# Altium integrated library ST Video Sound Circuit.IntLib: 5 symbols
Pins are listed as number, name and electrical type; pins without a type are passive.

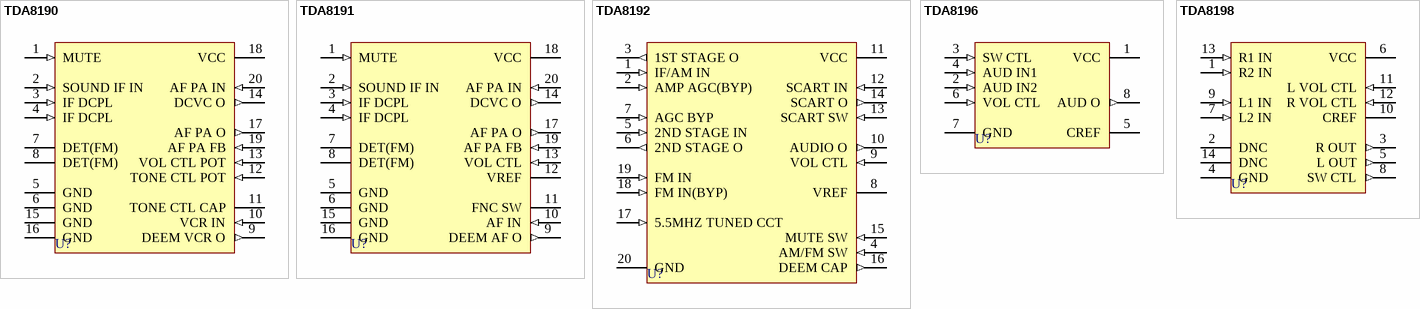
[diagram p0: symbols TDA8190 to TDA8198]

## TDA8190
designator U?
TV Sound Channel With DC Control; Published: 24-Aug-2001; LatestRevisionDate: 17-Jul-2002; LatestRevisionNote: Re-released for DXP Platform.; DatasheetDocument: Sep-1993; PackageDocument: Jun-1998; PackageReference: DIP20; Publisher: Altium Limited; Code_JEDEC: MS-015-AE
footprint DIP20 (DIP; 20 Leads; Row Spacing 7.62 mm; Pitch 2.54 mm)
pins: 1 MUTE (in), 2 SOUND IF IN (in), 3 IF DCPL (in), 4 IF DCPL (in), 5 GND (power), 6 GND (power), 7 DET(FM), 8 DET(FM), 9 DEEM VCR O (out), 10 VCR IN (in), 11 TONE CTL CAP, 12 TONE CTL POT (in), 13 VOL CTL POT (in), 14 DCVC O (out), 15 GND (power), 16 GND (power), 17 AF PA O (out), 18 VCC (power), 19 AF PA FB (in), 20 AF PA IN (in)

## TDA8191
designator U?
TV Sound Channel; Published: 24-Aug-2001; LatestRevisionDate: 17-Jul-2002; LatestRevisionNote: Re-released for DXP Platform.; DatasheetDocument: Sep-1993; PackageDocument: Jun-1998; PackageReference: DIP20; Publisher: Altium Limited; Code_JEDEC: MS-015-AE
footprint DIP20 (DIP; 20 Leads; Row Spacing 7.62 mm; Pitch 2.54 mm)
pins: 1 MUTE (in), 2 SOUND IF IN (in), 3 IF DCPL (in), 4 IF DCPL (in), 5 GND (power), 6 GND (power), 7 DET(FM), 8 DET(FM), 9 DEEM AF O (out), 10 AF IN (in), 11 FNC SW, 12 VREF, 13 VOL CTL (in), 14 DCVC O (out), 15 GND (power), 16 GND (power), 17 AF PA O (out), 18 VCC (power), 19 AF PA FB (in), 20 AF PA IN (in)

## TDA8192
designator U?
Multistandard AM and FM Sound If Circuit for TV; Published: 24-Aug-2001; LatestRevisionDate: 17-Jul-2002; LatestRevisionNote: Re-released for DXP Platform.; DatasheetDocument: Oct-1993; PackageDocument: Jun-1998; PackageReference: DIP20; Publisher: Altium Limited; Code_JEDEC: MS-015-AE
footprint DIP20 (DIP; 20 Leads; Row Spacing 7.62 mm; Pitch 2.54 mm)
pins: 1 IF/AM IN (in), 2 AMP AGC(BYP) (in), 3 1ST STAGE O (out), 4 AM/FM SW (in), 5 2ND STAGE IN (in), 6 2ND STAGE O (out), 7 AGC BYP (in), 8 VREF (hiz), 9 VOL CTL (in), 10 AUDIO O (out), 11 VCC (power), 12 SCART IN (in), 13 SCART SW (in), 14 SCART O (out), 15 MUTE SW (in), 16 DEEM CAP (out), 17 5.5MHZ TUNED CCT (in), 18 FM IN(BYP) (in), 19 FM IN (in), 20 GND (power)

## TDA8196
designator U?
Audio Switch and DC Volume Control for TV; Published: 24-Aug-2001; LatestRevisionDate: 17-Jul-2002; LatestRevisionNote: Re-released for DXP Platform.; DatasheetDocument: May-1996; PackageReference: DIP8; Publisher: Altium Limited; Code_JEDEC: MO-001-AN
footprint DIP8 (DIP; 8 Leads; Row Spacing 7.62 mm; Pitch 2.54 mm)
pins: 1 VCC (power), 2 AUD IN2 (in), 3 SW CTL (in), 4 AUD IN1 (in), 5 CREF, 6 VOL CTL (in), 7 GND (power), 8 AUD O (out)

## TDA8198
designator U?
Double Audio Switch and DC Volume Control for TV; Note: Do Not Connect (DNC) pin numbers 2 and 14.; Published: 24-Aug-2001; LatestRevisionDate: 17-Jul-2002; LatestRevisionNote: Re-released for DXP Platform.; DatasheetDocument: May-1996; PackageDocument: Jan-1997; PackageReference: DIP14; Publisher: Altium Limited
footprint DIP14 (DIP; 14 Leads; Row Spacing 7.62 mm; Pitch 2.54 mm)
pins: 1 R2 IN (in), 2 DNC, 3 R OUT (out), 4 GND (power), 5 L OUT (out), 6 VCC (power), 7 L2 IN (in), 8 SW CTL (out), 9 L1 IN (in), 10 CREF, 11 L VOL CTL (in), 12 R VOL CTL (in), 13 R1 IN (in), 14 DNC